# Altium schematic symbol library Diodes.SchLib: 39 symbols
Pins are listed as number, name and electrical type; pins without a type are passive.

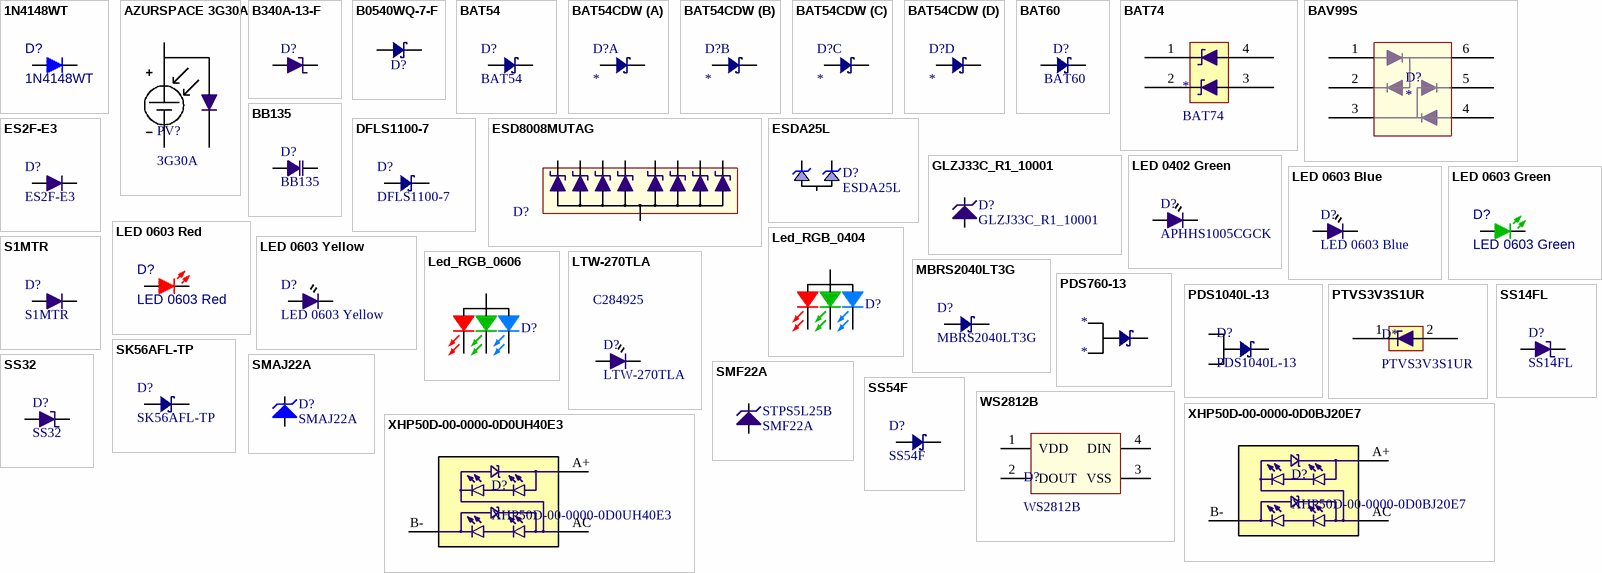
[diagram p0: symbols 1N4148WT to XHP50D-00-0000-0D0UH40E3]

## 1N4148WT
designator D?
Diode 75 V 200mA Surface Mount SOD-523F; Supplier 1: Digikey; Supplier 2: Mouser; Supplier Part Number 1: 1N4148WTCT-ND; Supplier Part Number 2: 512-1N4148WT
footprint FAIR-SOD-523F-2_V (SMD, 2-Leads, Body 1.2x0.8mm, Height 0.7mm)
pins: A, K

## AZURSPACE 3G30A
designator PV?, comment 3G30A
TJ Solar Cell Assembly 3G30A; Average Open Circuit Voc: 2.690 V; Average Short Circuit Isc: 519.6 mA; Voltage at max. Power Vmp: 2.409 V; Current at max. Power Imp: 502.9 mA; Voltage at max. Power: - 6.7 ΔVmp /ΔT↑; Features: Integrated Bypass Diode
footprint AZURSPACE 3G30A (TJ Solar Cell Assembly 3G30A)
pins: D, N, P

## B340A-13-F
designator D?  (value not drawn)
DIODE SCHOTTKY 40V 3A SMA; Supplier 1: Digi-Key; Supplier Part Number 1: B340A-FDICT-ND
footprint SODFL519X240-2N (SODFL, 2-Leads, Body 2.60x5.19mm, IPC Medium Density)
pins: 1, 2

## B0540WQ-7-F
designator D?  (value not drawn)
DIODE SCHOTTKY 40V 500MA SOD123; Supplier 1: Digi-Key; Supplier 2: Mouser; Supplier 3: LCSC; Manufacturer Part No: B0540WQ-7-F; Supplier Part Number 1: B0540WQ-7-FDICT-ND; Supplier Part Number 2: 621-B0540WQ-7-F; Supplier Part Number 3: C460776
footprint SOD123W (SODFL, 2-Leads, Body 1.70x3.50mm, IPC Medium Density)
pins: 1, 2

## BAT54
designator D?
Simple Shottkey Diode, Single, 200mA, 30V; Manufacturer: Diodes Inc.; Manufacturer Part Number: BAT54WS-7-F; Last Edited By: Russell Burge; Last Edited Date: 01/25/2016; Supplier: Digikey; Supplier Part Number: BAT54WS-FDICT-ND
footprint SOD-323 (BAT54H Single Shottkey Diode)
pins: 1, 2

## BAT54CDW
designator D?
DIODE ARRAY SCHOTTKY 30V SOT363; Supplier 1: Digi-Key; Supplier Part Number 1: BAT54CDW-FDICT-ND
footprint SOT65P210X110-6L (SOT23, 6-Leads, Body 2.00x2.10mm, Pitch 0.65mm, IPC High Density)
part A pins: A1, C1
part B pins: A2, C1
part C pins: A3, C2
part D pins: A4, C2

## BAT60
designator D?  Manufacturer Part No: BAT60  (hidden comment: *)
DIODE SCHOTTKY 10V 3A SOD323-2; Supplier 1: Digi-Key; Supplier Part Number 1: BAT60BE6327HTSA1CT-ND
footprint SOD-323 (BAT54H Single Shottkey Diode)
pins: 1, 2

## BAT74
designator *
Barrier Schotkky Double Diode; Supplier 1: Digi-Key; Supplier Part Number 1: 1727-2906-1-ND
footprint SOT190P230X110-4N (SOT143, 4-Leads, Body 2.90x2.30mm, Pitch 1.90mm, IPC Medium Density)
pins: 1, 2, 3, 4

## BAV99S
designator D?
2x2-series switching diode
footprint SOT-363 (SOT363 6 pin)
pins: 1, 2, 3, 4, 5, 6

## BB135
designator D?
Diode, Varactor, 20mA, 30V, ~2-20pF tuning range; Supplier 1: Digi-Key; Supplier Part Number 1: 568-6035-1-ND
footprint SOD-323 (BAT54H Single Shottkey Diode)
pins: A, K

## DFLS1100-7
designator D?
DIODE SCHOTTKY 100V POWERDI123; Current - Average Rectified (Io): 1A; Voltage - Forward (Vf) (Max) @ If: 770mV @ 1A; Current - Reverse Leakage @ Vr: 1µA @ 100V; Voltage - DC Reverse (Vr) (Max): 100V; Diode Type: Schottky; Supplier 1: Digi-Key; Supplier Part Number 1: DFLS1100DICT-ND
footprint POWERDI 123 (SODFL, 2-Leads, Body 1.78x3.70mm, IPC Low Density)
pins: 1, 2

## ES2F-E3
designator D?
Diode Standard 300 V 2A 35ns Trr Surface Mount DO-214AA (SMB); Supplier 1: Digi-Key; Supplier 2: Mouser; Supplier Part Number 1: ES2F-E3/5BTGICT-ND; Supplier Part Number 2: 625-ES2F-E3/5BT
footprint DO-214AA
pins: 1, 2

## ESD8008MUTAG
designator D?  (value not drawn)
8.1V (Typ) Clamp 16A Ipp Tvs Diode Surface Mount 14-UDFN (5.5x1.5); Supplier 1: Digi-Key; Supplier 2: Mouser; Supplier Part Number 1: ESD8008MUTAGOSCT-ND; Supplier Part Number 2: 863-ESD8008MUTAG
footprint UDFN14_517CN_ONS
pins: 1, 2, 3, 4, 5, 7, 8, 10, 11

## ESDA25L
designator D?
Dual Transil Array For ESD Protection in SOT23-3 Vbr = 25V; Manufacturer: STMicroelectronics; Supplier 1: Digi-Key; Supplier 2: Mouser; Supplier 3: LCSC; Supplier Part Number 1: 497-4642-1-ND; Supplier Part Number 2: 511-ESDA25L; Supplier Part Number 3: C95343; Manufacturer Part Number: ESDA25L
footprint SOT23-3L (SOT23, 3-Leads, Body 2.90x2.55mm, Pitch 0.95mm, IPC Medium Density)
pins: 1 K1, 2 K2 (power), 3 A

## GLZJ33C_R1_10001
designator D?
33V 500mW MINI-MELF Zener Diodes; Manufacturer: PANJIT International; Part Number: GLZJ33C_R1_10001; Supplier 3: LCSC; Supplier Part Number 3: C398874
footprint Mini-MELF Zener (MELF Diode, 2-Leads, Body 3.50x1.65mm, IPC Medium Density)
pins: 1 K, 2 A

## LED 0402 Green
designator D?, comment APHHS1005CGCK
LED GREEN CLEAR 0402 SMD; Supplier 1: Digi-Key; Supplier 2: Mouser; Supplier Part Number 1: 754-1101-1-ND; Supplier Part Number 2: 604-APHHS1005CGCK
footprint LED0402-IPC
pins: A, K

## LED 0603 Blue
designator D?
LED BLUE CLEAR 0603 SMD; Supplier 1: Digi-Key; Supplier Part Number 1: 732-4966-1-ND
footprint LED0603-IPC
pins: A, K

## LED 0603 Green
designator D?
LED GREEN CLEAR 0603 SMD; Supplier 1: Digi-Key; Supplier Part Number 1: 732-4971-1-ND
footprint LED0603-IPC
pins: A, K

## LED 0603 Red
designator D?
LED RED CLEAR 0603 SMD; Supplier 1: Digi-Key; Supplier Part Number 1: 732-4979-1-ND
footprint LED0603-IPC
pins: A, K

## LED 0603 Yellow
designator D?
LED YELLOW CLEAR 0603 SMD; Supplier 1: Digi-Key; Supplier Part Number 1: 732-4981-1-ND
footprint LED0603-IPC
pins: A, K

## Led_RGB_0404
designator D?, comment RGB  (value not drawn)
RGB Led 1 x 1 mm Diffused; Supplier 1: Digi-Key; Supplier 2: Mouser; Supplier Part Number 1: UHD1110-FKA-CL1A13R3Q1BBQFMF3CT-ND; Supplier Part Number 2: 941-UHD0FKAC11BQFMF3; Supplier 3: LCSC; Supplier Part Number 3: C158099
footprint LED_0404_RGB (Chip; Body 1 x 1 mm (LxW typ) CREE)
pins: A, BK, GK, RK

## Led_RGB_0606
designator D?, comment RGB  (value not drawn)
RGB Led 1.6 x 1.6 mm Diffused; Manufacturer: Everlight; Manufacturer Part Number: 19-237/R6GHBHW-C01/2T; Supplier 1: Digi-Key; Supplier Part Number 1: 1080-1590-1-ND
footprint LED_0606_RGB_WURTH (Chip; Body 1.6 x 1.6 mm (LxW typ) WURTH)
footprint LED_0606_RGB_WURTH - Reverse Mount (Chip; Body 1.6 x 1.6 mm (LxW typ) WURTH)
pins: A, BK, GK, RK

## LTW-270TLA
designator D?  Supplier Part Number 3: C284925
Right Angle White LED Indication - Discrete 3.1V 0603 (1608 Metric); Supplier 1: Digi-Key; Supplier 2: Mouser; Supplier 3: LCSC; Supplier Part Number 1: 160-1739-1-ND; Supplier Part Number 2: 859-LTW-270TLA
footprint LED0603 Side Fire (LTW-270TLA)
pins: A, K

## MBRS2040LT3G
designator D?
Schottky Diode, 2A, 40V; Manufacturer: ON Semi; Last Edited By: Russell Burge; Last Edited Date: 3/8/2016; Manufacturer Part Number: MBRS2040LT3G; Supplier: Digikey; Supplier Part Number: MBRS2040LT3GOSDKR-ND
footprint SMB-403A (MBRS2040LT3G Diode)
pins: 1, 2

## PDS760-13
designator *
Supplier 1: Digi-Key; Supplier Part Number 1: PDS760DICT-ND
footprint POWERDI5
pins: 1, 2, 3

## PDS1040L-13
designator D?
Diode Schottky 40V 10A; Supplier 1: Digi-Key; Supplier Part Number 1: PDS1040LDICT-ND
footprint PDS1040L (Diode Schottky 40V 10A Surface Mount PowerDI™ 5)
pins: 0, 1, 2

## PTVS3V3S1UR
designator D*
400W Transient Voltage Supressor; Supplier 1: Digi-Key; Supplier Part Number 1: 1727-5228-1-ND
footprint SOD123W (SODFL, 2-Leads, Body 1.70x3.50mm, IPC Medium Density)
pins: 1, 2

## S1MTR
designator D?
DIODE GEN PURP 1KV 1A SMA; Supplier 1: Digi-Key; Supplier Part Number 1: 1655-1506-1-ND
footprint SODFL523X295-2M (SODFL, 2-Leads, Body 2.62x5.23mm, IPC Low Density)
pins: 1, 2

## SK56AFL-TP
designator D?
Diode Schottky 60 V 5A Surface Mount DO-221AC (SMA-FL); Supplier 1: Digi-Key; Supplier 2: Mouser; Supplier Part Number 1: SK56AFL-TPMSCT-ND; Supplier Part Number 2: 833-SK56AFL-TP
footprint DO221AC (SMA-FL) (SMA-FL DO221AC)
pins: A, K

## SMAJ22A
designator D?
Bidirectional TVS DIODE 22V 35.5V DO214AC; Manufacturer: Littlefuse Inc.; Value: 24.4V; Manufacturer’s ordering code: SMAJ22A; Part Number: SMAJ22A; Supplier 1: Digi-Key; Supplier 2: Mouser; Supplier 3: LCSC; Supplier Part Number 1: SMAJ22ALFCT-ND; Supplier Part Number 2: 576-SMAJ22A; Supplier Part Number 3: C148220
footprint DO-214AC
pins: 1 A, 2 K

## SMF22A
designator STPS5L25B
Unidirectional 22V 24.4V 35.5V 5.6A SOD-123F TVS RoHS; Manufacturer: Littlefuse Inc.; Manufacturer’s ordering code: SMF22A; Part Number: SMF22A; Value: 24.4V; Supplier 1: Digi-Key; Supplier 2: Mouser; Supplier Part Number 1: F5822CT-ND; Supplier Part Number 2: 576-SMF22A; Supplier 3: LCSC; Supplier Part Number 3: C169431
footprint SOD-123F (SODFL, 2-Leads, Body 1.72x3.60mm, IPC High Density)
pins: A, K

## SS14FL
designator D?
Diode, Schottky, 1A; Supplier 1: Digi-Key; Supplier Part Number 1: SS14FLCT-ND
footprint SOD-123F (SODFL, 2-Leads, Body 1.72x3.60mm, IPC High Density)
pins: A, K

## SS32
designator D?
Diode, Schottky, 3A, 20V; Supplier 1: Digi-Key; Supplier Part Number 1: SS32CT-ND
footprint DO-214AB (Molded Diode, 2-Leads, Body 6.88x5.90mm, IPC High Density)
pins: A, K

## SS54F
designator D?
40V 5A 550mV @ 5A SMAF Schottky Barrier Diodes (SBD) RoHS; Supplier 3: LCSC; Supplier Part Number 3: C108841
footprint SMAF - SS54F (SMAF 2-Leads, Body 2.55x3.50mm, IPC High Density)
pins: A, K

## WS2812B
designator D?
Addressable Lighting - Discrete Serial Red, Green, Blue (RGB) 5.00mm L x 5.00mm WS2812B; Supplier 1: Digi-Key; Supplier 3: LCSC; Supplier Part Number 2: 485-1655; Supplier Part Number 1: 1528-1104-ND; Supplier 2: Mouser; Supplier Part Number 3: C114586
footprint WS2812B (WS2812 Individually Addressable LED)
pins: 1 VDD, 2 DOUT, 3 VSS, 4 DIN

## XHP50D-00-0000-0D0BJ20E7
designator D?
3000K LED Lighting series White, Warm 3000K 11.2V 700mA 120° 2020 (5050 Metric); MF: Cree Inc.; MP: XHP50D-00-0000-0D0BJ20E7; Supplier 1: Digi-Key; Supplier Part Number 1: 90-XHP50D-00-0000-0D0BJ20E7CT-ND; Supplier 2: Mouser; Supplier Part Number 2: 941-XHP50D00D0BJ20E7
footprint LED_XHP50B - 12V Configuration Only (Cree XHP50.3 12V Footprint)
pins: A+, AC, B-

## XHP50D-00-0000-0D0UH40E3
designator D?
5000K LED Lighting series White, Cool 5000K 11.2V 700mA 120° 2020 (5050 Metric); MF: Cree Inc.; MP: XHP50D-00-0000-0D0UH40E3; Supplier 1: Digi-Key; Supplier Part Number 1: 90-XHP50D-00-0000-0D0UH40E3CT-ND; Supplier 2: Mouser; Supplier Part Number 2: 941-XHP50D00D0UH40E3
footprint LED_XHP50B - 12V Configuration Only (Cree XHP50.3 12V Footprint)
pins: A+, AC, B-

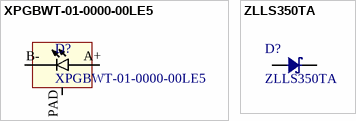
[diagram p1: symbols XPGBWT-01-0000-00LE5 to ZLLS350TA]

## XPGBWT-01-0000-00LE5
designator D?
LED Lighting series White, Neutral 4000K 2.72V 350mA 115° 1414 (3535 Metric); MF: Cree Inc.; MP: XPGBWT-01-0000-00LE5; Supplier 1: Digi-Key; Supplier 2: Mouser; Supplier Part Number 1: XPGBWT-01-0000-00LE5CT-ND; Supplier Part Number 2: 941-XPGBWT0100LE5
footprint LED_XP-G2 (Cree XP-G21)
pins: A+, B-, PAD ISO_PAD

## ZLLS350TA
designator D?
Diode Schottky 40V 380mA (DC) Surface Mount SOD-523; Supplier 1: Digi-Key; Supplier Part Number 1: ZLLS350TACT-ND
footprint SODFL160X65-2N (SODFL, 2-Leads, Body 0.80x1.60mm, IPC Medium Density)
pins: 0, 1